# Altium footprint library LED_TH_5MM_RED.PcbLib: 1 footprints
Each footprint in its own frame and in the unit in brackets; x right, y up, seen from the top. Pads: shape width x height; smd on the part's side, far side on the other; paste and mask are expansions set on the pad; w line width, h text height; cw(c..) or ccw(c..) is an arc to the next point about the centre after c.
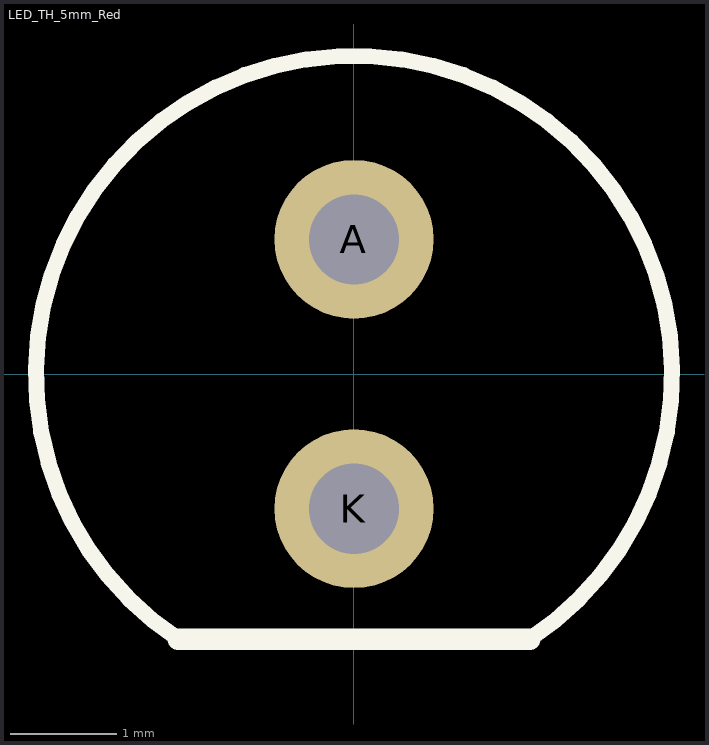
[diagram p0: the footprint, top view; thin cyan lines are the x and y axes]

## LED_TH_5mm_Red [mm] "LED, 5mm Through-Hole, Red"
height 8.6
pads (2):
  round 1.5 hole 0.85: A(0,1.27) K(0,-1.27)
Top Overlay:
  lines w0.15: -1.658,-2.5 cw(c0,0) 1.658,-2.5
  lines w0.2: -1.658,-2.5 1.658,-2.5
Comp Asy Info-Top:
  text ".Designator" at -2.1,-0.4 h1.52
3D body "User Library-LED-D5R.STEP": height 13.94, standoff -1.5, extent -3,-2.5 3,3